# Altium schematic symbol library Cap Pol2.Schlib: 1 symbol
Pins are listed as number, name and electrical type; pins without a type are passive.

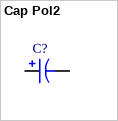
[diagram p0: symbol Cap Pol2]

## Cap Pol2
designator C?  (value not drawn)
Polarized Capacitor (Axial)
pins: 1, 2
1 alternate drawing of the same symbol